# EAGLE library part ADA4528-2 (library Analog_Device)
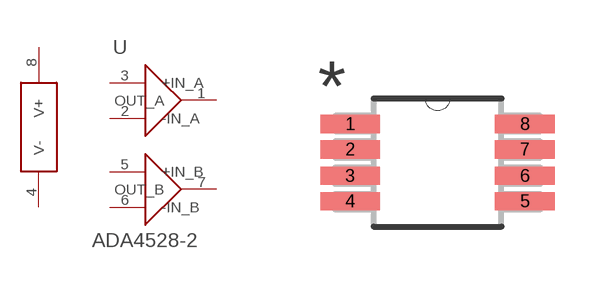
[diagram p4: symbol with the pads of SOP65P490X110-8N; footprint SOP65P490X110-8N]

Designator prefix -

## ADA4528-2  [SOP65P490X110-8N]
1  OUT_A  out
2  -IN_A  in
3  +IN_A  in
4  V-  pwr
5  +IN_B  nc
6  -IN_B  nc
7  OUT_B  nc
8  V+  pwr

## Footprint SOP65P490X110-8N (pad centres in mm)
smd 1.499 x 0.457: 1 -2.184,0.965; 2 -2.184,0.33; 3 -2.184,-0.33; 4 -2.184,-0.965; 5 2.184,-0.965; 6 2.184,-0.33; 7 2.184,0.33; 8 2.184,0.965